# EAGLE library part HDR_2X04 (library GPLIB_CONN)
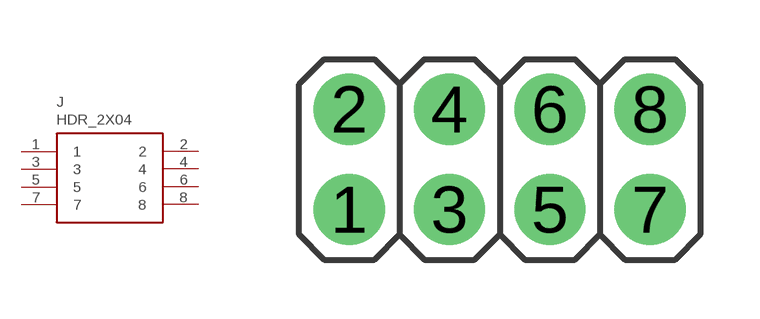
[diagram p69: symbol with the pads of HDR_2X04_2.54MM_TH_ST; footprint HDR_2X04_2.54MM_TH_ST]

Designator prefix J

## HDR_2X04_2.54MM_TH_ST  [HDR_2X04_2.54MM_TH_ST]
1  1  pas
2  2  pas
3  3  pas
4  4  pas
5  5  pas
6  6  pas
7  7  pas
8  8  pas

## Footprint HDR_2X04_2.54MM_TH_ST (pad centres in mm)
drill 1.05 pad 1.8: 1 -3.81,-1.27; 2 -3.81,1.27; 3 -1.27,-1.27; 4 -1.27,1.27; 5 1.27,-1.27; 6 1.27,1.27; 7 3.81,-1.27; 8 3.81,1.27